# Altium footprint library ICfootprint3.PcbLib: 77 footprints (part 1 of 5)
Each footprint in its own frame and in the unit in brackets; x right, y up, seen from the top. Pads: shape width x height; smd on the part's side, far side on the other; paste and mask are expansions set on the pad; w line width, h text height; cw(c..) or ccw(c..) is an arc to the next point about the centre after c.
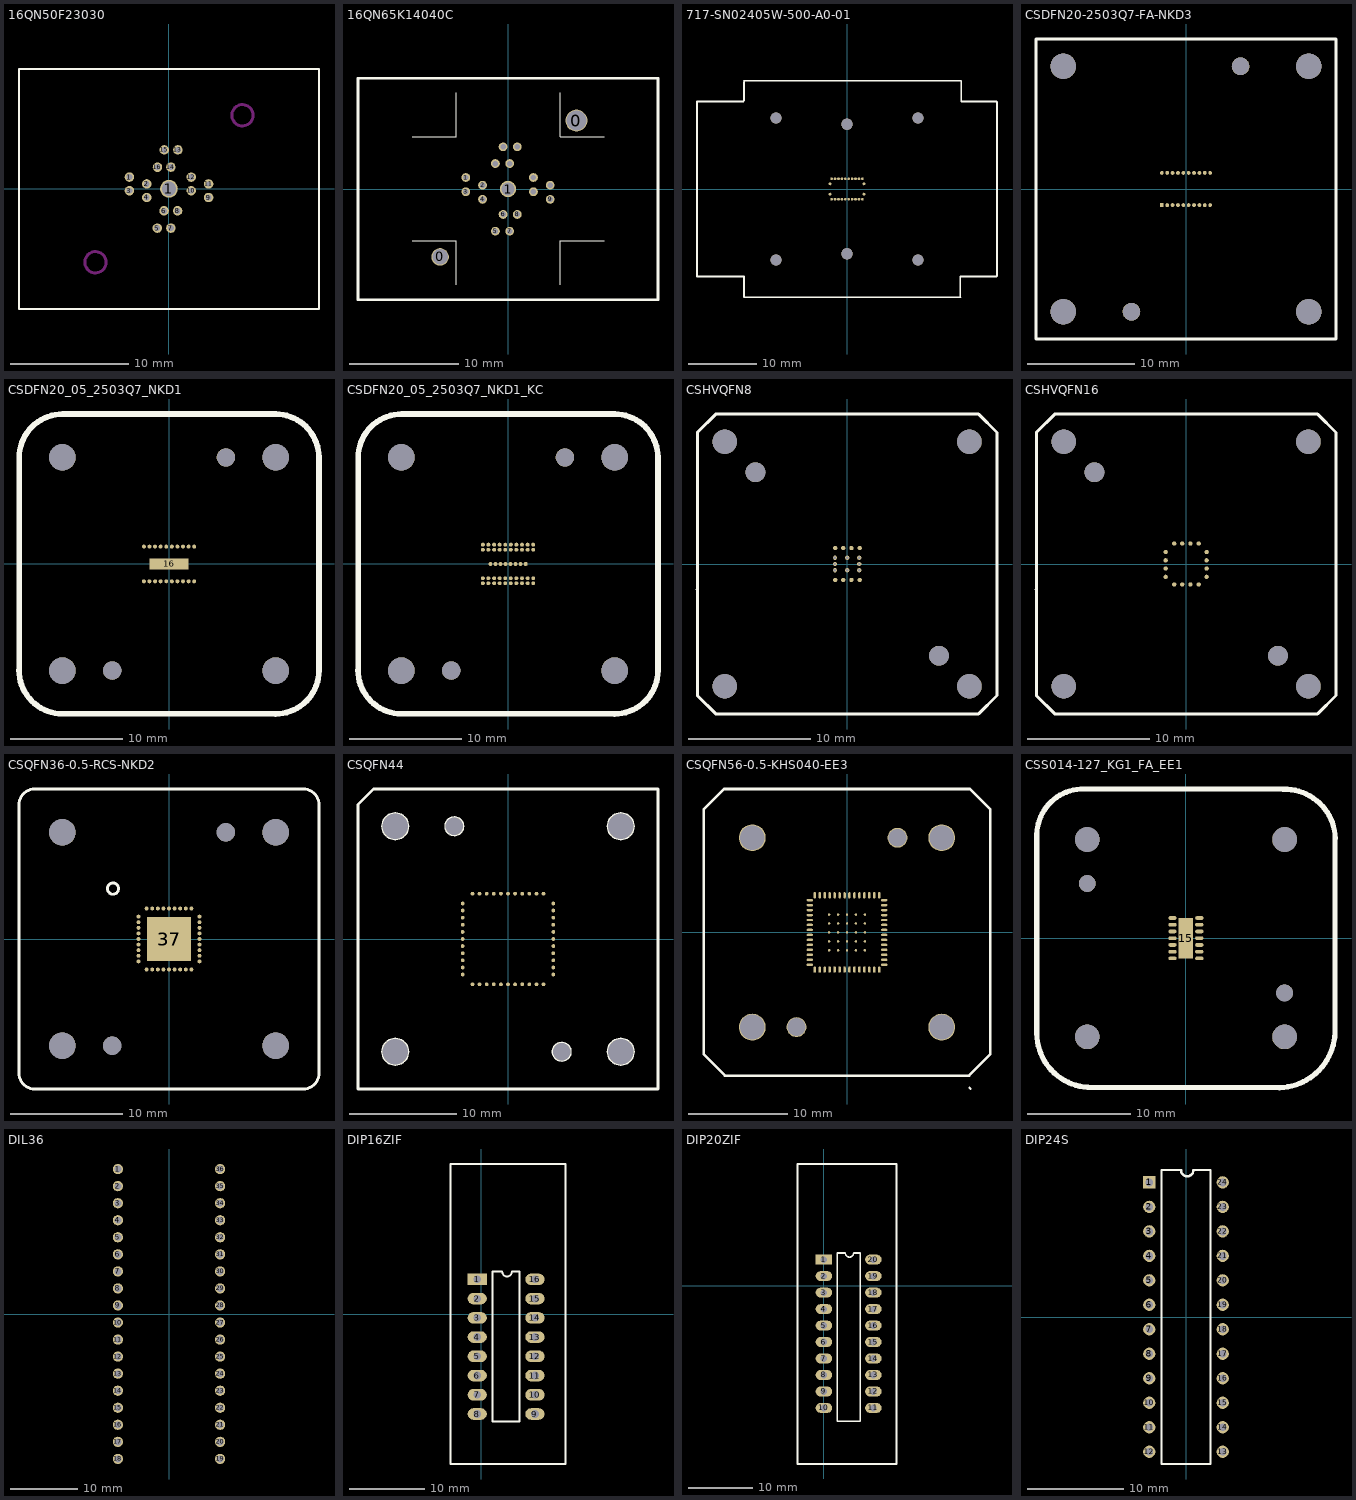
[diagram p0: the footprints below, top view; thin cyan lines are the x and y axes]

## 16QN50F23030 [mm] "burn-in socket"
height 15.5
pads (17):
  round 0.8 hole 0.5 mask+0.051: 1(-3.348,0.988) 2(-1.879,0.413) 3(-3.348,-0.162) 4(-1.879,-0.737) 5(-0.989,-3.333) 6(-0.414,-1.864) 7(0.161,-3.333) 8(0.736,-1.864) 9(3.355,-0.739) 10(1.886,-0.164) 12(1.886,0.986) 13(0.752,3.297) 14(0.161,1.831) 15(-0.398,3.297) 16(-0.973,1.829)
  round 1.5 hole 1.2: 1(0,0)
  round 0.8 hole 0.4 mask+0.051: 11(3.355,0.411)
Top Overlay:
  lines w0.2: -12.696,-10.178 0.004,-10.178 12.704,-10.178 12.704,-0.018 12.704,10.142 0.004,10.142 -12.696,10.142 -12.696,-0.018 -12.696,-10.178
Drill Guide keep-out:
  circle w0.254: c-6.223,-6.223 r0.9
  circle w0.254: c6.223,6.223 r0.9

## 16QN65K14040C [mm]
height 13.5
pads (19):
  round 1.6 hole 1.4 mask+0.051: 0(-6.2,-6.2)
  round 2 hole 1.8 mask+0.051: 0(6.25,6.25)
  round 0.8 hole 0.5 mask+0.051: 1(-3.85,1.05) 2(-2.325,0.35) 3(-3.85,-0.25) 4(-2.325,-0.95) 5(-1.15,-3.85) 6(-0.45,-2.325) 7(0.15,-3.85) 8(0.85,-2.325) 9(3.85,-0.95) 10(2.325,-0.25) 11(3.85,0.35) 12(2.325,1.05) 13(0.85,3.85) 14(0.15,2.325) 15(-0.45,3.85) 16(-1.15,2.325)
  round 1.5 hole 1.2 mask+0.051: 1(0,0)
Top Overlay:
  lines w0.1: -8.725,-4.725 -4.725,-4.725 -4.725,-8.725 ; -8.725,4.775 -4.725,4.775 -4.725,8.775 ; 4.775,-8.725 4.775,-4.725 8.775,-4.725 ; 4.775,8.775 4.775,4.775 8.775,4.775
  lines w0.254: -13.7,-10.12 13.7,-10.12 13.7,10.12 -13.7,10.12 -13.7,-10.12

## 717-SN02405W-500-A0-01 [mm] "TJA1024 socket"
pads (30):
  round 0.4 smd mask+0.02: 1(2.494,0.75) 2(2.25,1.494) 3(1.75,1.494) 4(1.25,1.494) 5(0.75,1.494) 6(0.25,1.494) 7(-0.25,1.494) 8(-0.75,1.494) 9(-1.25,1.494) 10(-1.75,1.494) 11(-2.25,1.494) 12(-2.494,0.75) 13(-2.494,-0.75) 14(-2.25,-1.494) 15(-1.75,-1.494) 16(-1.25,-1.494) 17(-0.75,-1.494) 18(-0.25,-1.494) 19(0.25,-1.494) 20(0.75,-1.494) 21(1.25,-1.494) 22(1.75,-1.494) 23(2.25,-1.494) 24(2.494,-0.75)
  round 1.6 hole 1.6 mask+0.02: ""(-10.415,-10.415) ""(-10.415,10.415) ""(10.415,-10.415) ""(10.415,10.415)
  round 1.65 hole 1.65 mask+0.02: ""(0,-9.5) ""(0,9.5)
Top Overlay:
  lines w0.254: -22.01,-12.84 -22.01,12.84 ; -21.971,-12.827 -15.748,-12.827 -15.367,-12.827 -15.113,-12.827 -15.113,-15.875 ; -21.971,12.827 -15.24,12.827 -15.113,12.954 -15.113,15.748 ; -15.12,-15.88 0,-15.88 16.69,-15.88 ; -15.12,15.88 0,15.88 16.69,15.88 ; 16.637,-15.875 16.637,-12.827 17.018,-12.827 21.971,-12.827 22.01,-12.788 22.01,12.788 21.971,12.827 16.764,12.827 16.764,13.081 16.764,15.875

## CSDFN20-2503Q7-FA-NKD3 [mm] "Nicad socket"
pads (26):
  rect 0.35x0.35 smd mask+0.02: 1(-2.25,-1.5)
  round 0.35 smd mask+0.02: 2(-1.75,-1.5) 3(-1.25,-1.5) 4(-0.75,-1.5) 5(-0.25,-1.5) 6(0.25,-1.5) 7(0.75,-1.5) 8(1.25,-1.5) 9(1.75,-1.5) 10(2.25,-1.5) 11(2.25,1.5) 12(1.75,1.5) 13(1.25,1.5) 14(0.75,1.5) 15(0.25,1.5) 16(-0.25,1.5) 17(-0.75,1.5) 18(-1.25,1.5) 19(-1.75,1.5) 20(-2.25,1.5)
  round 2.37 hole 2.37 mask+0.02: ""(-11.43,-11.43) ""(11.43,-11.43) ""(11.43,11.43)
  round 2.37 hole 2.38 mask+0.02: ""(-11.43,11.43)
  round 1.65 hole 1.62 mask+0.02: ""(-5.08,-11.43) ""(5.08,11.43)
Top Overlay:
  lines w0.254: -13.97,-13.97 13.97,-13.97 13.97,13.97 -13.97,13.97 -13.97,-13.97
  lines w0.508: 11.621,11.424 11.628,11.431

## CSDFN20_05_2503Q7_NKD1 [mm] "Nicad socket"
pads (27):
  round 0.35 smd mask+0.02: 1(-2.25,-1.55) 2(-1.75,-1.55) 3(-1.25,-1.55) 4(-0.75,-1.55) 5(-0.25,-1.55) 6(0.25,-1.55) 7(0.75,-1.55) 8(1.25,-1.55) 9(1.75,-1.55) 10(2.25,-1.55) 11(2.25,1.55) 12(1.75,1.55) 13(1.25,1.55) 14(0.75,1.55) 15(0.25,1.55) 16(-0.25,1.55) 17(-0.75,1.55) 18(-1.25,1.55) 19(-1.75,1.55) 20(-2.25,1.55)
  rect 3.5x1 smd mask+0.051: 16(0,0)
  round 2.37 hole 2.37 mask+0.02: ""(-9.525,-9.525) ""(-9.525,9.525) ""(9.525,-9.525) ""(9.525,9.525)
  round 1.65 hole 1.62 mask+0.02: ""(-5.08,-9.525) ""(5.08,9.525)
Top Overlay:
  lines w0.508: -13.412,-9.477 ccw(c-9.505,-9.491) -9.519,-13.398 ; -13.4,-9.519 -13.4,9.427 ; -13.4,9.5 cw(c-9.5,9.5) -9.5,13.4 ; -9.603,-13.4 9.513,-13.4 ; -9.393,13.4 9.569,13.4 ; 9.513,-13.405 ccw(c9.52,-9.519) 13.406,-9.526 ; 9.527,13.399 cw(c9.52,9.52) 13.399,9.513 ; 13.399,-9.442 13.399,9.646 13.406,9.653

## CSDFN20_05_2503Q7_NKD1_KC [mm] "Nicad socket"
pads (54):
  round 0.35 smd mask+0.02: 1p(-2.25,-1.725) 1s(-2.25,-1.275) 2p(-1.75,-1.725) 2s(-1.75,-1.275) 3p(-1.25,-1.725) 3s(-1.25,-1.275) 4p(-0.75,-1.725) 4s(-0.75,-1.275) 5p(-0.25,-1.725) 5s(-0.25,-1.275) 6p(0.25,-1.725) 6s(0.25,-1.275) 7p(0.75,-1.725) 7s(0.75,-1.275) 8p(1.25,-1.725) 8s(1.25,-1.275) 9p(1.75,-1.725) 9s(1.75,-1.275) 10p(2.25,-1.725) 10s(2.25,-1.275) 11p(2.25,1.725) 11s(2.25,1.275) 12p(1.75,1.725) 12s(1.75,1.275) 13p(1.25,1.725) 13s(1.25,1.275) 14p(0.75,1.725) 14s(0.75,1.275) 15p(0.25,1.725) 15s(0.25,1.275) 16p(-0.25,1.725) 16s(-0.25,1.275) 17p(-0.75,1.725) 17s(-0.75,1.275) 18p(-1.25,1.725) 18s(-1.25,1.275) 19p(-1.75,1.725) 19s(-1.75,1.275) 20p(-2.25,1.725) 20s(-2.25,1.275) edp1(-1.575,0) edp2(-1.125,0) edp3(-0.675,0) edp4(-0.225,0) edp5(0.225,0) edp6(0.675,0) edp7(1.125,0) edp8(1.575,0)
  round 2.37 hole 2.37 mask+0.02: ""(-9.525,-9.525) ""(-9.525,9.525) ""(9.525,-9.525) ""(9.525,9.525)
  round 1.65 hole 1.62 mask+0.02: ""(-5.08,-9.525) ""(5.08,9.525)
Top Overlay:
  lines w0.508: -13.412,-9.477 ccw(c-9.505,-9.491) -9.519,-13.398 ; -13.4,-9.519 -13.4,9.427 ; -13.4,9.5 cw(c-9.5,9.5) -9.5,13.4 ; -9.603,-13.4 9.513,-13.4 ; -9.393,13.4 9.569,13.4 ; 9.513,-13.405 ccw(c9.52,-9.519) 13.406,-9.526 ; 9.527,13.399 cw(c9.52,9.52) 13.399,9.513 ; 13.399,-9.442 13.399,9.646 13.406,9.653

## CSHVQFN8 [mm] "Direct contact socket"
pads (14):
  round 0.35 smd: 1(-0.975,-1.3) 2(-0.325,-1.3) 3(0.35,-1.3) 4(1.025,-1.3) 5(1.025,1.3) 6(0.35,1.3) 7(-0.325,1.3) 8(-0.975,1.3)
  round 2 hole 2 unplated mask+0: ""(-10,-10) ""(-10,10) ""(10,-10) ""(10,10)
  round 1.62 hole 1.62 unplated mask+0: ""(-7.5,7.5) ""(7.5,-7.5)
via 0,-0.512 diameter 0.35 hole 0.2
via 0,0.512 diameter 0.35 hole 0.2
via 1,0.512 diameter 0.35 hole 0.2
via 1,-0.512 diameter 0.35 hole 0.2
via 1,0 diameter 0.35 hole 0.2
via -1,0 diameter 0.35 hole 0.2
via -1,-0.512 diameter 0.35 hole 0.2
via -1,0.512 diameter 0.35 hole 0.2
Top Overlay:
  lines w0.254: -12.275,-2.1 -12.25,-2.075 ; -12.25,-10.75 -12.25,10.75 -10.75,12.25 10.75,12.25 12.25,10.75 12.25,-10.75 10.75,-12.25 -10.75,-12.25 -12.25,-10.75
Drill Guide:
  circle w0.254: c-10,-10 r1.185
  circle w0.254: c10,-10 r1.185
  circle w0.254: c10,10 r1.185
  circle w0.254: c-7.5,7.5 r0.81
  circle w0.254: c7.5,-7.5 r0.81
  circle w0.254: c-10,10 r1.185

## CSHVQFN16 [mm] "Direct contact socket"
pads (22):
  round 0.35 smd: 1(-1.675,0.975) 2(-1.675,0.3) 3(-1.675,-0.375) 4(-1.675,-1.05) 5(-0.975,-1.675) 6(-0.325,-1.675) 7(0.35,-1.675) 8(1.025,-1.675) 9(1.675,-1.05) 10(1.675,-0.375) 11(1.675,0.3) 12(1.675,0.975) 13(1.025,1.675) 14(0.35,1.675) 15(-0.325,1.675) 16(-0.975,1.675)
  round 2 hole 2 unplated mask+0: ""(-10,-10) ""(-10,10) ""(10,-10) ""(10,10)
  round 1.62 hole 1.62 unplated mask+0: ""(-7.5,7.5) ""(7.5,-7.5)
Top Overlay:
  lines w0.254: -12.275,-2.1 -12.25,-2.075 ; -12.25,-10.75 -10.75,-12.25 10.75,-12.25 12.25,-10.75 12.25,10.75 10.75,12.25 -10.75,12.25 -12.25,10.75 -12.25,-10.75
Drill Guide:
  circle w0.254: c-7.5,7.5 r0.81
  circle w0.254: c10,10 r1.185
  circle w0.254: c10,-10 r1.185
  circle w0.254: c-10,10 r1.185
  circle w0.254: c-10,-10 r1.185
  circle w0.254: c7.5,-7.5 r0.81

## CSQFN36-0.5-RCS-NKD2 [mm] "Direct contact socket CSQFN36"
pads (44):
  round 0.35 smd mask+0: 1(-2.725,2) 2(-2.725,1.5) 3(-2.725,1) 4(-2.725,0.5) 5(-2.725,0) 6(-2.72,-0.5) 7(-2.725,-1) 8(-2.725,-1.5) 9(-2.725,-2) 10(-2,-2.725) 11(-1.5,-2.725) 12(-1,-2.725) 13(-0.5,-2.725) 14(0,-2.725) 15(0.5,-2.725) 16(1,-2.725) 17(1.5,-2.725) 18(2,-2.725) 19(2.725,-2) 20(2.725,-1.5) 21(2.725,-1) 22(2.725,-0.5) 23(2.725,0) 24(2.725,0.5) 25(2.725,1) 26(2.725,1.5) 27(2.725,2) 28(2,2.725) 29(1.5,2.725) 30(1,2.725) 31(0.5,2.725) 32(0,2.725) 33(-0.5,2.725) 34(-1,2.725) 35(-1.5,2.725) 36(-2,2.725)
  rect 3.9x3.9 smd: 37(0,0)
  rect 3.9x3.9 smd far side: 37(0,0)
  round 2.37 hole 2.37 mask+0: ""(-9.525,-9.525) ""(-9.525,9.525) ""(9.525,-9.525) ""(9.525,9.525)
  round 1.62 hole 1.635 mask+0: ""(-5.08,-9.525) ""(5.08,9.525)
Top Overlay:
  circle w0.254: c-5,4.5 r0.5
  lines w0.254: -13.4,-12 ccw(c-12,-12) -12,-13.4 0,-13.4 12,-13.4 ccw(c12,-12) 13.4,-12 13.4,12 ccw(c12,12) 12,13.4 0,13.4 -12,13.4 ccw(c-12,12) -13.4,12 -13.4,-12

## CSQFN44 [mm] "NICAD direct contact socket QFN44"
pads (50):
  round 0.35 smd: 1(-4.225,3.313) 2(-4.225,2.65) 3(-4.225,1.987) 4(-4.225,1.325) 5(-4.225,0.663) 6(-4.225,0) 7(-4.225,-0.663) 8(-4.225,-1.325) 9(-4.225,-1.987) 10(-4.225,-2.65) 11(-4.225,-3.313) 12(-3.313,-4.225) 13(-2.65,-4.225) 14(-1.987,-4.225) 15(-1.325,-4.225) 16(-0.663,-4.225) 17(0,-4.225) 18(0.663,-4.225) 19(1.325,-4.225) 20(1.987,-4.225) 21(2.65,-4.225) 22(3.313,-4.225) 23(4.225,-3.313) 24(4.225,-2.65) 25(4.225,-1.987) 26(4.225,-1.325) 27(4.225,-0.663) 28(4.225,0) 29(4.225,0.663) 30(4.225,1.325) 31(4.225,1.987) 32(4.225,2.65) 33(4.225,3.313) 34(3.313,4.225) 35(2.65,4.225) 36(1.987,4.225) 37(1.325,4.225) 38(0.663,4.225) 39(0,4.225) 40(-0.663,4.225) 41(-1.325,4.225) 42(-1.987,4.225) 43(-2.65,4.225) 44(-3.313,4.225)
  round 2.37 hole 2.37: ""(-10.5,-10.5) ""(-10.5,10.5) ""(10.5,-10.5) ""(10.5,10.5)
  round 1.62 hole 1.62: ""(-5,10.5) ""(5,-10.5)
Top Overlay:
  circle w0.254: c5,-10.5 r0.81
  circle w0.254: c-5,10.5 r0.81
  circle w0.254: c-10.5,-10.5 r1.185
  circle w0.254: c10.5,-10.5 r1.185
  circle w0.254: c10.5,10.5 r1.185
  circle w0.254: c-10.5,10.5 r1.185
  lines w0.254: -13.97,-13.97 -13.97,12.53 -12.53,13.97 13.97,13.97 13.97,-13.97 -13.97,-13.97

## CSQFN56-0.5-KHS040-EE3 [mm] "IP1 NICAD Socket"
pads (88):
  oval 0.63x0.25 smd mask+0.02: 1(-3.74,3.25) 2(-3.74,2.75) 3(-3.74,2.25) 4(-3.74,1.75) 5(-3.74,1.25) 6(-3.74,0.75) 7(-3.74,0.25) 8(-3.74,-0.25) 9(-3.74,-0.75) 10(-3.74,-1.25) 11(-3.74,-1.75) 12(-3.74,-2.25) 13(-3.74,-2.75) 14(-3.74,-3.25) 29(3.74,-3.25) 30(3.74,-2.75) 31(3.74,-2.25) 32(3.74,-1.75) 33(3.74,-1.25) 34(3.74,-0.75) 35(3.74,-0.25) 36(3.74,0.25) 37(3.74,0.75) 38(3.74,1.25) 39(3.74,1.75) 40(3.74,2.25) 41(3.74,2.75) 42(3.74,3.25)
  oval 0.25x0.63 smd mask+0.02: 15(-3.25,-3.74) 16(-2.75,-3.74) 17(-2.25,-3.74) 18(-1.75,-3.74) 19(-1.25,-3.74) 20(-0.75,-3.74) 21(-0.25,-3.74) 22(0.25,-3.74) 23(0.75,-3.74) 24(1.25,-3.74) 25(1.75,-3.74) 26(2.25,-3.74) 27(2.75,-3.74) 28(3.25,-3.74) 43(3.25,3.74) 44(2.75,3.74) 45(2.25,3.74) 46(1.75,3.74) 47(1.25,3.74) 48(0.75,3.74) 49(0.25,3.74) 50(-0.25,3.74) 51(-0.75,3.74) 52(-1.25,3.74) 53(-1.75,3.74) 54(-2.25,3.74) 55(-2.75,3.74) 56(-3.25,3.74)
  round 0.25 smd mask+0.02: 57(-1.8,-1.8) 57(-1.8,-0.9) 57(-1.8,0) 57(-1.8,0.9) 57(-1.8,1.8) 57(-0.9,-1.8) 57(-0.9,-0.9) 57(-0.9,0) 57(-0.9,0.9) 57(-0.9,1.8) 57(0,-1.8) 57(0,-0.9) 57(0,0) 57(0,0) 57(0,0.9) 57(0,1.8) 57(0.9,-1.8) 57(0.9,-0.9) 57(0.9,0) 57(0.9,0.9) 57(0.9,1.8) 57(1.8,-1.8) 57(1.8,-0.9) 57(1.8,0) 57(1.8,0.9) 57(1.8,1.8)
  round 2.7 hole 2.5 unplated mask+0.051: ""(-9.525,-9.525) ""(-9.525,9.525) ""(9.525,-9.525) ""(9.525,9.525)
  round 2 hole 1.8 unplated mask+0.051: ""(-5.08,-9.525) ""(5.08,9.525)
Top Overlay:
  lines w0.203: 12.319,-15.621 12.446,-15.748
  lines w0.254: -14.4,-12.27 -12.27,-14.4 12.27,-14.4 14.4,-12.27 14.4,12.397 12.37,14.427 -12.37,14.427 -14.4,12.397 -14.4,-12.27

## CSS014-127_KG1_FA_EE1 [mm] "Enplass TJA1146 socket"
pads (21):
  oval 0.8x0.35 smd mask+0: 1(-1.295,1.95) 2(-1.295,1.3) 3(-1.295,0.65) 4(-1.295,0) 5(-1.295,-0.65) 6(-1.295,-1.3) 7(-1.295,-1.95) 8(1.295,-1.95) 9(1.295,-1.3) 10(1.295,-0.65) 11(1.295,0) 12(1.295,0.65) 13(1.295,1.3) 14(1.295,1.95)
  rect 1.4x3.9 smd mask+0: 15(0,0)
  round 2.37 hole 2.37 mask+0: ""(-9.525,-9.525) ""(-9.525,9.525) ""(9.525,-9.525) ""(9.525,9.525)
  round 1.62 hole 1.62 mask+0: ""(-9.525,5.28) ""(9.525,-5.28)
Top Overlay:
  lines w0.508: -14.4,-9.145 -14.4,9.934 ; -14.386,-9.215 ccw(c-9.137,-9.156) -9.078,-14.405 ; -14.382,10.028 cw(c-9.916,9.934) -9.822,14.399 ; -9.916,14.4 9.55,14.4 ; -9.239,-14.4 8.895,-14.4 ; 9.045,-14.424 ccw(c8.895,-8.921) 14.398,-8.771 ; 9.41,14.369 cw(c9.548,9.493) 14.425,9.631 ; 14.4,-8.921 14.4,9.55
Top Solder:
  rectangle: -10.414,-14.478 10.541,14.224
  region: -10.16,14.097 -11.684,14.097 -13.843,12.319 -14.351,10.033 -14.351,7.62 -14.351,-10.287 -13.627,-12.357 -11.811,-13.589 -10.16,-14.478 -10.16,2.794
  region: 10.033,14.351 11.176,13.97 12.319,13.462 14.097,11.43 14.224,10.922 14.351,10.795 14.351,-10.287 13.97,-10.668 13.97,-11.557 12.573,-12.954 12.573,-13.208 12.446,-13.208 11.43,-14.224 10.033,-14.224
  lines w0.508: -14.4,-9.272 -14.4,9.807 ; -14.386,-9.342 ccw(c-9.137,-9.283) -9.078,-14.532 ; -14.382,9.901 cw(c-9.916,9.807) -9.822,14.272 ; -9.916,14.273 9.55,14.273 ; -9.239,-14.527 8.895,-14.527 ; 9.045,-14.551 ccw(c8.895,-9.048) 14.398,-8.898 ; 9.41,14.242 cw(c9.548,9.366) 14.425,9.504 ; 14.4,-9.048 14.4,9.423

## DIL36 [mil]
pads (36):
  round 60 hole 40: 1(-300,850) 2(-300,750) 3(-300,650) 4(-300,550) 5(-300,450) 6(-300,350) 7(-300,250) 8(-300,150) 9(-300,50) 10(-300,-50) 11(-300,-150) 12(-300,-250) 13(-300,-350) 14(-300,-450) 15(-300,-550) 16(-300,-650) 17(-300,-750) 18(-300,-850) 19(300,-850) 20(300,-750) 21(300,-650) 22(300,-550) 23(300,-450) 24(300,-350) 25(300,-250) 26(300,-150) 27(300,-50) 28(300,50) 29(300,150) 30(300,250) 31(300,350) 32(300,450) 33(300,550) 34(300,650) 35(300,750) 36(300,850)

## DIP16ZIF [mil]
pads (16):
  rect 100x60 hole 40: 1(-20,180)
  oval 100x60 hole 40: 2(-20,80) 3(-20,-20) 4(-20,-120) 5(-20,-220) 6(-20,-320) 7(-20,-420) 8(-20,-520) 9(280,-520) 10(280,-420) 11(280,-320) 12(280,-220) 13(280,-120) 14(280,-20) 15(280,80) 16(280,180)
Top Overlay:
  lines w10: -160,-780 -160,780 440,780 440,-780 -160,-780 ; 60,-560 60,-480 60,220 110,220 ccw(c135,220) 160,220 200,220 200,-480 200,-560 60,-560

## DIP20ZIF [mil]
pads (20):
  rect 100x60 hole 40: 1(0,160)
  oval 100x60 hole 40: 2(0,60) 3(0,-40) 4(0,-140) 5(0,-240) 6(0,-340) 7(0,-440) 8(0,-540) 9(0,-640) 10(0,-740) 11(300,-740) 12(300,-640) 13(300,-540) 14(300,-440) 15(300,-340) 16(300,-240) 17(300,-140) 18(300,-40) 19(300,60) 20(300,160)
Top Overlay:
  lines w10: -160,-1080 -160,740 440,740 440,-1080 -160,-1080 ; 80,-820 220,-820 220,200 180,200 cw(c155,200) 130,200 80,200 80,-820

## DIP24S [mil]
pads (24):
  rect 50x50 hole 32: 1(-150,550)
  round 50 hole 32: 2(-150,450) 3(-150,350) 4(-150,250) 5(-150,150) 6(-150,50) 7(-150,-50) 8(-150,-150) 9(-150,-250) 10(-150,-350) 11(-150,-450) 12(-150,-550) 13(150,-550) 14(150,-450) 15(150,-350) 16(150,-250) 17(150,-150) 18(150,-50) 19(150,50) 20(150,150) 21(150,250) 22(150,350) 23(150,450) 24(150,550)
Top Overlay:
  lines w7.87: -100,600 -20,600 ; 30,600 100,600
  lines w10: -100,600 -100,-600 100,-600 100,600 ; -20,600 ccw(c5,600) 30,600